# Altium schematic symbol library Crystals & Oscillators.SchLib: 1 symbol
Pins are listed as number, name and electrical type; pins without a type are passive.

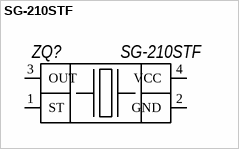
[diagram p0: symbol SG-210STF]

## SG-210STF
designator ZQ?
footprint SG-210STF
pins: 1 ST, 2 GND, 3 OUT, 4 VCC